# Altium footprint library MX_Alps_Hybrid.PcbLib: 20 footprints (part 1 of 2)
Each footprint in its own frame and in the unit in brackets; x right, y up, seen from the top. Pads: shape width x height; smd on the part's side, far side on the other; paste and mask are expansions set on the pad; w line width, h text height; cw(c..) or ccw(c..) is an arc to the next point about the centre after c.
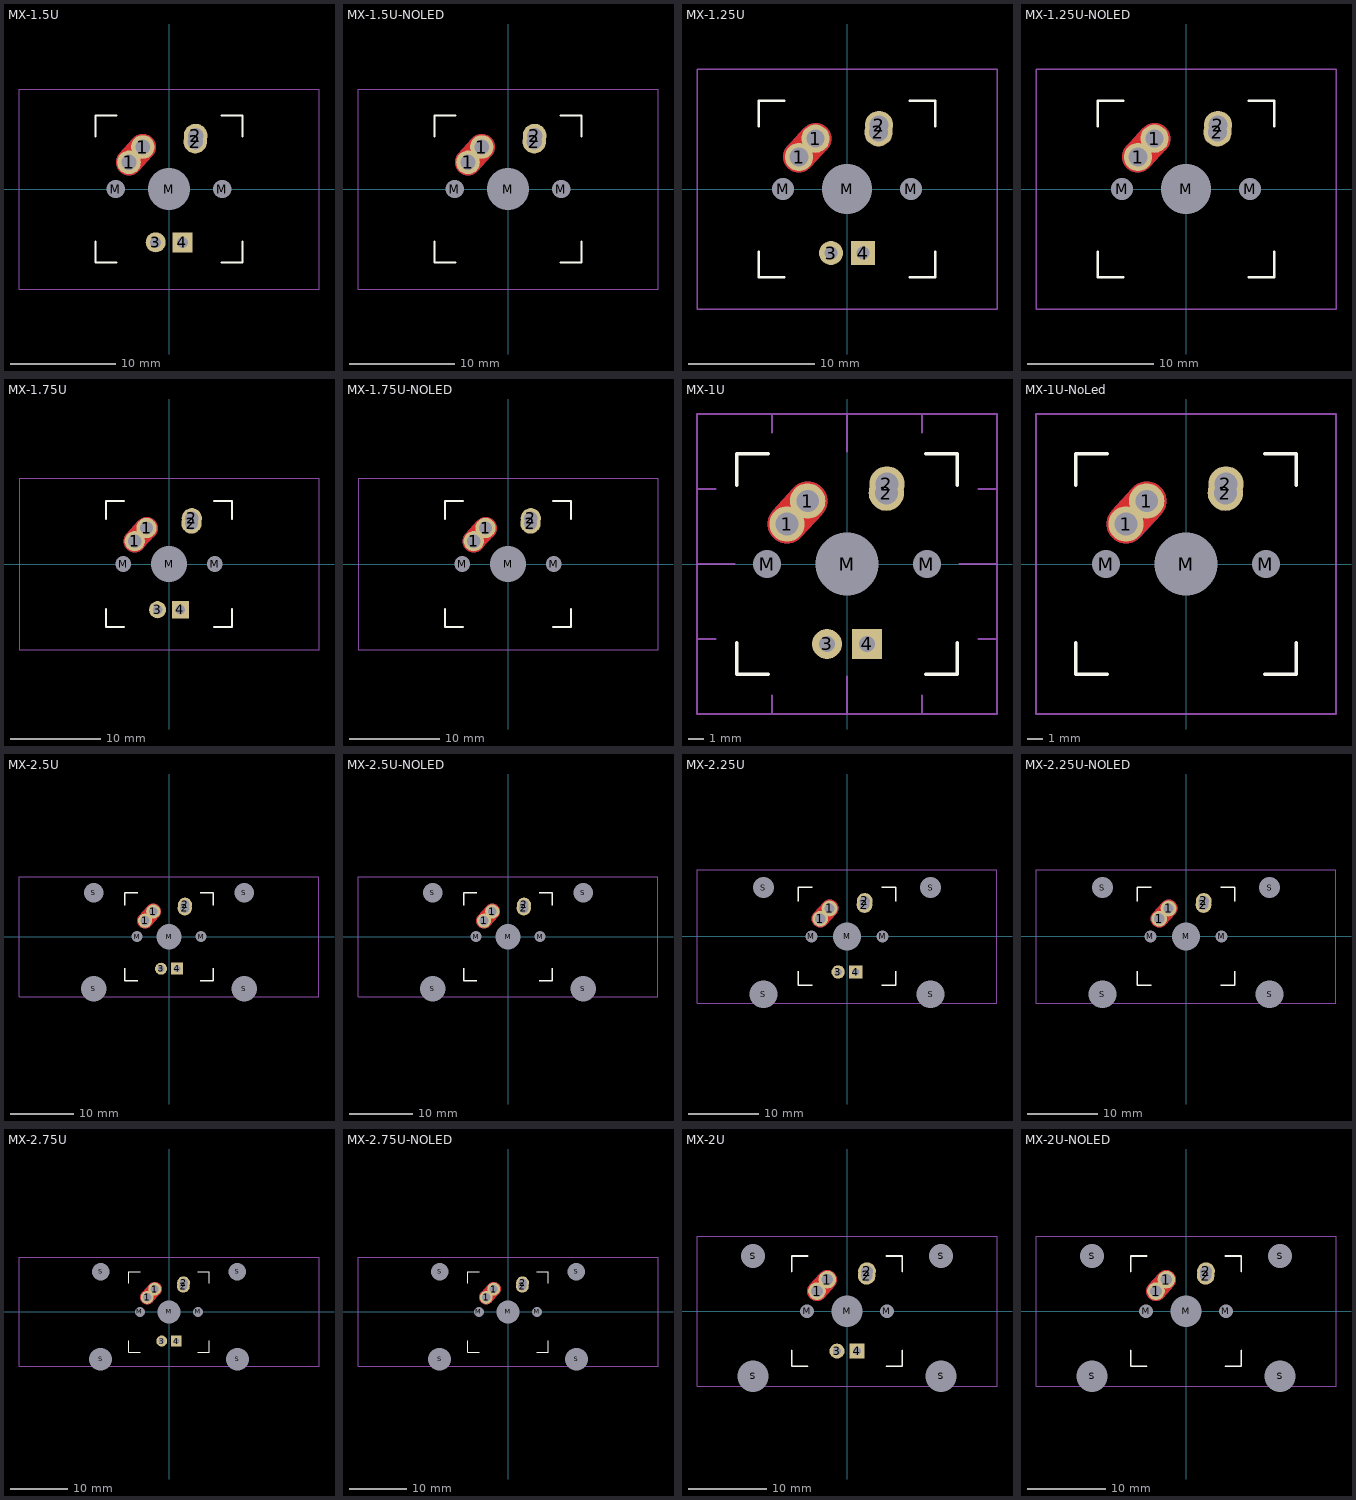
[diagram p0: the footprints below, top view; thin cyan lines are the x and y axes]

## MX-1.5U [mm]
pads (9):
  round 2.25 hole 1.47: 1(-3.81,2.54) 2(2.5,4.5) 2(2.54,5.08)
  round 2.25 hole 1.42: 1(-2.5,4)
  round 1.905 hole 1.04: 3(-1.27,-5.08)
  rect 1.905x1.905 hole 1.04: 4(1.27,-5.08)
  round 1.524 hole 1.75 unplated: M(-5.08,0) M(5.08,0)
  round 1.524 hole 3.988 unplated: M(0,0)
Top Layer:
  lines w2.5: -3.812,2.542 -2.5,4
Bottom Layer:
  lines w2.5: -3.812,2.542 -2.5,4
Top Overlay:
  lines w0.2: -7,-5 -7,-7 -5,-7 ; -7,5 -7,7 -5,7 ; 5,-7 7,-7 7,-5 ; 5,7 7,7 7,5
Layout:
  lines w0.1: -14.287,-9.525 -14.287,9.525 14.287,9.525 14.287,-9.525 -14.287,-9.525

## MX-1.5U-NOLED [mm]
pads (7):
  round 2.25 hole 1.47: 1(-3.81,2.54) 2(2.5,4.5) 2(2.54,5.08)
  round 2.25 hole 1.42: 1(-2.5,4)
  round 1.524 hole 1.75 unplated: M(-5.08,0) M(5.08,0)
  round 1.524 hole 3.988 unplated: M(0,0)
Top Layer:
  lines w2.5: -3.812,2.542 -2.5,4
Bottom Layer:
  lines w2.5: -3.812,2.542 -2.5,4
Top Overlay:
  lines w0.2: -7,-5 -7,-7 -5,-7 ; -7,5 -7,7 -5,7 ; 5,-7 7,-7 7,-5 ; 5,7 7,7 7,5
Layout:
  lines w0.1: -14.287,-9.525 -14.287,9.525 14.287,9.525 14.287,-9.525 -14.287,-9.525

## MX-1.25U [mm]
pads (9):
  round 2.25 hole 1.47: 1(-3.81,2.54) 2(2.5,4.5) 2(2.54,5.08)
  round 2.25 hole 1.42: 1(-2.5,4)
  round 1.905 hole 1.04: 3(-1.27,-5.08)
  rect 1.905x1.905 hole 1.04: 4(1.27,-5.08)
  round 1.524 hole 1.75 unplated: M(-5.08,0) M(5.08,0)
  round 1.524 hole 3.988 unplated: M(0,0)
Top Layer:
  lines w2.5: -3.812,2.542 -2.5,4
Bottom Layer:
  lines w2.5: -3.812,2.542 -2.5,4
Top Overlay:
  lines w0.2: -7,-5 -7,-7 -5,-7 ; -7,5 -7,7 -5,7 ; 5,-7 7,-7 7,-5 ; 5,7 7,7 7,5
Layout:
  lines w0.1: -11.906,-9.525 11.906,-9.525 11.906,9.525 -11.906,9.525 -11.906,-9.525

## MX-1.25U-NOLED [mm]
pads (7):
  round 2.25 hole 1.47: 1(-3.81,2.54) 2(2.5,4.5) 2(2.54,5.08)
  round 2.25 hole 1.42: 1(-2.5,4)
  round 1.524 hole 1.75 unplated: M(-5.08,0) M(5.08,0)
  round 1.524 hole 3.988 unplated: M(0,0)
Top Layer:
  lines w2.5: -3.812,2.542 -2.5,4
Bottom Layer:
  lines w2.5: -3.812,2.542 -2.5,4
Top Overlay:
  lines w0.2: -7,-5 -7,-7 -5,-7 ; -7,5 -7,7 -5,7 ; 5,-7 7,-7 7,-5 ; 5,7 7,7 7,5
Layout:
  lines w0.1: -11.906,-9.525 11.906,-9.525 11.906,9.525 -11.906,9.525 -11.906,-9.525

## MX-1.75U [mm]
pads (9):
  round 2.25 hole 1.47: 1(-3.81,2.54) 2(2.5,4.5) 2(2.54,5.08)
  round 2.25 hole 1.42: 1(-2.5,4)
  round 1.905 hole 1.04: 3(-1.27,-5.08)
  rect 1.905x1.905 hole 1.04: 4(1.27,-5.08)
  round 1.524 hole 1.75 unplated: M(-5.08,0) M(5.08,0)
  round 1.524 hole 3.988 unplated: M(0,0)
Top Layer:
  lines w2.5: -3.812,2.542 -2.5,4
Bottom Layer:
  lines w2.5: -3.812,2.542 -2.5,4
Top Overlay:
  lines w0.2: -7,-5 -7,-7 -5,-7 ; -7,5 -7,7 -5,7 ; 5,-7 7,-7 7,-5 ; 5,7 7,7 7,5
Layout:
  lines w0.1: -16.669,-9.525 16.669,-9.525 16.669,9.525 -16.669,9.525 -16.669,-9.525

## MX-1.75U-NOLED [mm]
pads (7):
  round 2.25 hole 1.47: 1(-3.81,2.54) 2(2.5,4.5) 2(2.54,5.08)
  round 2.25 hole 1.42: 1(-2.5,4)
  round 1.524 hole 1.75 unplated: M(-5.08,0) M(5.08,0)
  round 1.524 hole 3.988 unplated: M(0,0)
Top Layer:
  lines w2.5: -3.812,2.542 -2.5,4
Bottom Layer:
  lines w2.5: -3.812,2.542 -2.5,4
Top Overlay:
  lines w0.2: -7,-5 -7,-7 -5,-7 ; -7,5 -7,7 -5,7 ; 5,-7 7,-7 7,-5 ; 5,7 7,7 7,5
Layout:
  lines w0.1: -16.669,-9.525 -16.669,9.525 16.669,9.525 16.669,-9.525 -16.669,-9.525

## MX-1U [mm]
pads (9):
  round 2.25 hole 1.47: 1(-3.81,2.54) 2(2.5,4.5) 2(2.54,5.08)
  round 2.25 hole 1.42: 1(-2.5,4)
  round 1.905 hole 1.04: 3(-1.27,-5.08)
  rect 1.905x1.905 hole 1.04: 4(1.27,-5.08)
  round 1.524 hole 1.75 unplated: M(-5.08,0) M(5.08,0)
  round 1.524 hole 3.988 unplated: M(0,0)
Top Layer:
  lines w2.5: -3.812,2.542 -2.5,4
Bottom Layer:
  lines w2.5: -3.812,2.542 -2.5,4
Top Overlay:
  lines w0.2: -7,-5 -7,-7 -5,-7 ; -7,5 -7,7 -5,7 ; 5,-7 7,-7 7,-5 ; 5,7 7,7 7,5
Layout:
  lines w0.1: -9.525,-4.763 -8.334,-4.763 ; -9.525,0 -7.144,0 ; -9.525,4.763 -8.334,4.763 ; -4.763,-9.525 -4.763,-8.334 ; -4.763,8.334 -4.763,9.525 ; 0,-9.525 0,-7.144 ; 0,7.144 0,9.525 ; 4.763,-9.525 4.763,-8.334 ; 4.763,8.334 4.763,9.525 ; 7.144,0 9.525,0 ; 8.334,-4.763 9.525,-4.763 ; 8.334,4.763 9.525,4.763 ; -9.525,-9.525 -9.525,9.525 9.525,9.525 9.525,-9.525 -9.525,-9.525

## MX-1U-NoLed [mm]
pads (7):
  round 2.25 hole 1.47: 1(-3.81,2.54) 2(2.5,4.5) 2(2.54,5.08)
  round 2.25 hole 1.42: 1(-2.5,4)
  round 1.524 hole 1.75 unplated: M(-5.08,0) M(5.08,0)
  round 1.524 hole 3.988 unplated: M(0,0)
Top Layer:
  lines w2.5: -3.812,2.542 -2.5,4
Bottom Layer:
  lines w2.5: -3.81,2.54 -2.498,3.998
Top Overlay:
  lines w0.2: -7,-5 -7,-7 -5,-7 ; -7,5 -7,7 -5,7 ; 5,-7 7,-7 7,-5 ; 5,7 7,7 7,5
Layout:
  lines w0.1: -9.525,-9.525 -9.525,9.525 9.525,9.525 9.525,-9.525 -9.525,-9.525

## MX-2.5U [mil]
pads (13):
  round 88.58 hole 57.87: 1(-150,100) 2(98.43,177.17) 2(100,200)
  round 88.58 hole 55.91: 1(-98.43,157.48)
  round 75 hole 40.94: 3(-50,-200)
  rect 75x75 hole 40.94: 4(50,-200)
  round 60 hole 68.9 unplated: M(-200,0) M(200,0)
  round 60 hole 157 unplated: M(0,0) S(-470,-325) S(470,-325)
  round 60 hole 120 unplated: S(-470,275) S(470,275)
Top Layer:
  lines w98.43: -150.09,100.08 -98.43,157.48
Bottom Layer:
  lines w98.43: -150.09,100.08 -98.43,157.48
Top Overlay:
  lines w7.87: -275.59,-196.85 -275.59,-275.59 -196.85,-275.59 ; -275.59,196.85 -275.59,275.59 -196.85,275.59 ; 196.85,-275.59 275.59,-275.59 275.59,-196.85 ; 196.85,275.59 275.59,275.59 275.59,196.85
Layout:
  lines w3.94: -937.5,-375 -937.48,375 937.48,375 937.48,-375 -937.48,-375

## MX-2.5U-NOLED [mil]
pads (11):
  round 88.58 hole 57.87: 1(-150,100) 2(98.43,177.17) 2(100,200)
  round 88.58 hole 55.91: 1(-98.43,157.48)
  round 60 hole 68.9 unplated: M(-200,0) M(200,0)
  round 60 hole 157 unplated: M(0,0) S(-470,-325) S(470,-325)
  round 60 hole 120 unplated: S(-470,275) S(470,275)
Top Layer:
  lines w98.43: -150.09,100.08 -98.43,157.48
Bottom Layer:
  lines w98.43: -150.09,100.08 -98.43,157.48
Top Overlay:
  lines w7.87: -275.59,-196.85 -275.59,-275.59 -196.85,-275.59 ; -275.59,196.85 -275.59,275.59 -196.85,275.59 ; 196.85,-275.59 275.59,-275.59 275.59,-196.85 ; 196.85,275.59 275.59,275.59 275.59,196.85
Layout:
  lines w3.94: -937.5,-375 -937.48,375 937.48,375 937.48,-375 -937.48,-375

## MX-2.25U [mil]
pads (13):
  round 88.58 hole 57.87: 1(-150,100) 2(98.43,177.17) 2(100,200)
  round 88.58 hole 55.91: 1(-98.43,157.48)
  round 75 hole 40.94: 3(-50,-200)
  rect 75x75 hole 40.94: 4(50,-200)
  round 60 hole 68.9 unplated: M(-200,0) M(200,0)
  round 60 hole 157 unplated: M(0,0) S(-470,-325) S(470,-325)
  round 60 hole 120 unplated: S(-470,275) S(470,275)
Top Layer:
  lines w98.43: -150.09,100.08 -98.43,157.48
Bottom Layer:
  lines w98.43: -150.09,100.08 -98.43,157.48
Top Overlay:
  lines w7.87: -275.59,-196.85 -275.59,-275.59 -196.85,-275.59 ; -275.59,196.85 -275.59,275.59 -196.85,275.59 ; 196.85,-275.59 275.59,-275.59 275.59,-196.85 ; 196.85,275.59 275.59,275.59 275.59,196.85
Layout:
  lines w3.94: -843.75,-375 843.75,-375 843.75,375 -843.75,375 -843.75,-375

## MX-2.25U-NOLED [mil]
pads (11):
  round 88.58 hole 57.87: 1(-150,100) 2(98.43,177.17) 2(100,200)
  round 88.58 hole 55.91: 1(-98.43,157.48)
  round 60 hole 68.9 unplated: M(-200,0) M(200,0)
  round 60 hole 157 unplated: M(0,0) S(-470,-325) S(470,-325)
  round 60 hole 120 unplated: S(-470,275) S(470,275)
Top Layer:
  lines w98.43: -150.09,100.08 -98.43,157.48
Bottom Layer:
  lines w98.43: -150.09,100.08 -98.43,157.48
Top Overlay:
  lines w7.87: -275.59,-196.85 -275.59,-275.59 -196.85,-275.59 ; -275.59,196.85 -275.59,275.59 -196.85,275.59 ; 196.85,-275.59 275.59,-275.59 275.59,-196.85 ; 196.85,275.59 275.59,275.59 275.59,196.85
Layout:
  lines w3.94: -843.75,-375 843.75,-375 843.75,375 -843.75,375 -843.75,-375

## MX-2.75U [mil]
pads (13):
  round 88.58 hole 57.87: 1(-150,100) 2(98.43,177.17) 2(100,200)
  round 88.58 hole 55.91: 1(-98.43,157.48)
  round 75 hole 40.94: 3(-50,-200)
  rect 75x75 hole 40.94: 4(50,-200)
  round 60 hole 68.9 unplated: M(-200,0) M(200,0)
  round 60 hole 157 unplated: M(0,0) S(-470,-325) S(470,-325)
  round 60 hole 120 unplated: S(-470,275) S(470,275)
Top Layer:
  lines w98.43: -150.09,100.08 -98.43,157.48
Bottom Layer:
  lines w98.43: -150.09,100.08 -98.43,157.48
Top Overlay:
  lines w7.87: -275.59,-196.85 -275.59,-275.59 -196.85,-275.59 ; -275.59,196.85 -275.59,275.59 -196.85,275.59 ; 196.85,-275.59 275.59,-275.59 275.59,-196.85 ; 196.85,275.59 275.59,275.59 275.59,196.85
Layout:
  lines w3.94: -1031.25,-375 -1031.25,375 1031.25,375 1031.25,-375 -1031.25,-375

## MX-2.75U-NOLED [mil]
pads (11):
  round 88.58 hole 57.87: 1(-150,100) 2(98.43,177.17) 2(100,200)
  round 88.58 hole 55.91: 1(-98.43,157.48)
  round 60 hole 68.9 unplated: M(-200,0) M(200,0)
  round 60 hole 157 unplated: M(0,0) S(-470,-325) S(470,-325)
  round 60 hole 120 unplated: S(-470,275) S(470,275)
Top Layer:
  lines w98.43: -150.09,100.08 -98.43,157.48
Bottom Layer:
  lines w98.43: -150.09,100.08 -98.43,157.48
Top Overlay:
  lines w7.87: -275.59,-196.85 -275.59,-275.59 -196.85,-275.59 ; -275.59,196.85 -275.59,275.59 -196.85,275.59 ; 196.85,-275.59 275.59,-275.59 275.59,-196.85 ; 196.85,275.59 275.59,275.59 275.59,196.85
Layout:
  lines w3.94: -1031.25,-375 1031.25,-375 1031.25,375 -1031.25,375 -1031.25,-375

## MX-2U [mil]
pads (13):
  round 88.58 hole 57.87: 1(-150,100) 2(98.43,177.17) 2(100,200)
  round 88.58 hole 55.91: 1(-98.43,157.48)
  round 75 hole 40.94: 3(-50,-200)
  rect 75x75 hole 40.94: 4(50,-200)
  round 60 hole 68.9 unplated: M(-200,0) M(200,0)
  round 60 hole 157 unplated: M(0,0) S(-470,-325) S(470,-325)
  round 60 hole 120 unplated: S(-470,275) S(470,275)
Top Layer:
  lines w98.43: -150.09,100.08 -98.43,157.48
Bottom Layer:
  lines w98.43: -150.09,100.08 -98.43,157.48
Top Overlay:
  lines w7.87: -275.59,-196.85 -275.59,-275.59 -196.85,-275.59 ; -275.59,196.85 -275.59,275.59 -196.85,275.59 ; 196.85,-275.59 275.59,-275.59 275.59,-196.85 ; 196.85,275.59 275.59,275.59 275.59,196.85
Layout:
  lines w3.94: -750,-375 750,-375 750,375 -750,375 -750,-375

## MX-2U-NOLED [mil]
pads (11):
  round 88.58 hole 57.87: 1(-150,100) 2(98.43,177.17) 2(100,200)
  round 88.58 hole 55.91: 1(-98.43,157.48)
  round 60 hole 68.9 unplated: M(-200,0) M(200,0)
  round 60 hole 157 unplated: M(0,0) S(-470,-325) S(470,-325)
  round 60 hole 120 unplated: S(-470,275) S(470,275)
Top Layer:
  lines w98.43: -150.09,100.08 -98.43,157.48
Bottom Layer:
  lines w98.43: -150.09,100.08 -98.43,157.48
Top Overlay:
  lines w7.87: -275.59,-196.85 -275.59,-275.59 -196.85,-275.59 ; -275.59,196.85 -275.59,275.59 -196.85,275.59 ; 196.85,-275.59 275.59,-275.59 275.59,-196.85 ; 196.85,275.59 275.59,275.59 275.59,196.85
Layout:
  lines w3.94: -750,-375 750,-375 750,375 -750,375 -750,-375